# Altium schematic symbol library ADP2300.SchLib: 1 symbol
Pins are listed as number, name and electrical type; pins without a type are passive.

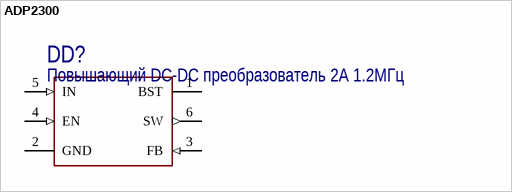
[diagram p0: symbol ADP2300]

## ADP2300
designator DD?, comment Повышающий DC-DC преобразователь 2А 1.2МГц
pins: 1 BST (power), 2 GND (power), 3 FB (in), 4 EN (in), 5 IN (in), 6 SW (out)